# EAGLE library part TMS418160ADZ (library Ketturi electronics)
TMS418160A 16M DRAM The TMS418160A is a 16 777 216-bit dynamic random-access memory (DRAM) device orga- nized as 1 048 576 words of 16 bits. 1M x 16-Bit DRAM Package: SO-J42
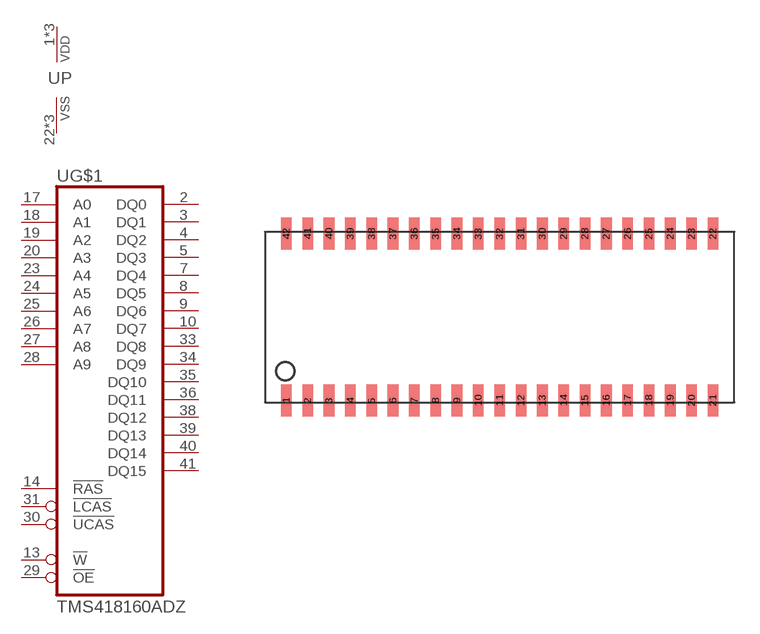
[diagram p6: symbol with the pads of SOJ42; footprint SOJ42]

Designator prefix -; gates G$1=TMS418160ADZ P=PWRN

## TMS418160ADZ  [SOJ42]
1  P:VDD  pwr
2  G$1:DQ0
3  G$1:DQ1
4  G$1:DQ2
5  G$1:DQ3
6  P:VDD  pwr
7  G$1:DQ4
8  G$1:DQ5
9  G$1:DQ6
10  G$1:DQ7
13  G$1:!W  in
14  G$1:!RAS  in
17  G$1:A0  in
18  G$1:A1  in
19  G$1:A2  in
20  G$1:A3  in
21  P:VDD  pwr
22  P:VSS  pwr
23  G$1:A4  in
24  G$1:A5  in
25  G$1:A6  in
26  G$1:A7  in
27  G$1:A8  in
28  G$1:A9  in
29  G$1:!OE  in
30  G$1:!UCAS  in
31  G$1:!LCAS  in
33  G$1:DQ8
34  G$1:DQ9
35  G$1:DQ10
36  G$1:DQ11
37  P:VSS  pwr
38  G$1:DQ12
39  G$1:DQ13
40  G$1:DQ14
41  G$1:DQ15
42  P:VSS  pwr

## Footprint SOJ42 (pad centres in mm)
smd 0.635 x 1.905: 1 -12.065,-4.966; 2 -10.795,-4.966; 3 -9.525,-4.966; 4 -8.255,-4.966; 5 -6.985,-4.966; 6 -5.715,-4.966; 7 -4.445,-4.966; 8 -3.175,-4.966; 9 -1.905,-4.966; 10 -0.635,-4.966; 11 0.635,-4.966; 12 1.905,-4.966; 13 3.175,-4.966; 14 4.445,-4.966; 15 5.715,-4.966; 16 6.985,-4.966; 17 8.255,-4.966; 18 9.525,-4.966; 19 10.795,-4.966; 20 12.065,-4.966; 21 13.335,-4.966; 22 13.335,4.966; 23 12.065,4.966; 24 10.795,4.966; 25 9.525,4.966; 26 8.255,4.966; 27 6.985,4.966; 28 5.715,4.966; 29 4.445,4.966; 30 3.175,4.966; 31 1.905,4.966; 32 0.635,4.966; 33 -0.635,4.966; 34 -1.905,4.966; 35 -3.175,4.966; 36 -4.445,4.966; 37 -5.715,4.966; 38 -6.985,4.966; 39 -8.255,4.966; 40 -9.525,4.966; 41 -10.795,4.966; 42 -12.065,4.966